# Altium footprint library USB-AP-S-RA-SMT.PCBLIB: 1 footprints
Each footprint in its own frame and in the unit in brackets; x right, y up, seen from the top. Pads: shape width x height; smd on the part's side, far side on the other; paste and mask are expansions set on the pad; w line width, h text height; cw(c..) or ccw(c..) is an arc to the next point about the centre after c.
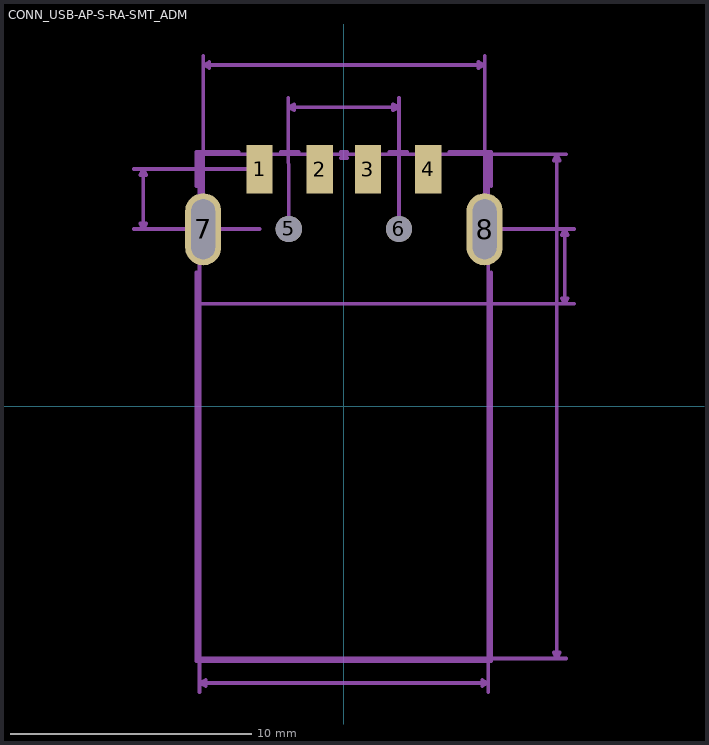
[diagram p0: the footprint, top view; thin cyan lines are the x and y axes]

## CONN_USB-AP-S-RA-SMT_ADM [mil]
pads (10):
  rect 43x79 smd: 1(-137.8,387.5) 2(-39.37,387.5) 3(39.37,387.5) 4(137.8,387.5)
  round 43 hole 43: 5(-90,290) 6(90,290)
  rrect100% 59x118 smd: 7(-230,289.5) 8(230,289.5)
  round 39 hole 39 slot 98 at 90 deg: S_1_H1(-230,289.5) S_2_H1(230,289.5)
Dimension:
  lines w6: -236,-412 236,-412 236,168 -236,168 -236,-412
  lines w39: -230,260 -230,319 ; 230,260 230,319
tDocu:
  lines w6: -236,-412 -236,412 236,412 236,-412 -236,-412
  text "*" at -260,362 h77.5
tPlace:
  lines w6: -241,219 -241,-416 241,-416 241,219 ; -241,360 -241,416 -172,416 ; -103,416 -74,416 ; -5,406 5,406 ; -5,416 5,416 ; 74,416 103,416 ; 172,416 241,416 241,360
  text "*" at -260,362 h77.5
Measures:
  lines w6: -343,290 -328,290 ; -343,388 -328,388 ; -236,-467 -236,-452 ; -236,-412 -236,-452 ; -230,290 -230,558 ; -230,573 -230,558 ; -138,290 -328,290 ; -138,388 -328,388 ; -91,504 -90,290 ; 90,290 90,489 ; 90,504 90,489 ; 230,-412 348,-412 ; 230,168 361,168 ; 230,573 230,558 ; 236,-467 236,-452 ; 236,-412 236,-452 ; 363,-412 348,-412 ; 363,412 348,412 ; 376,168 361,168 ; 376,290 361,290 ; -328,290 -323,299 -333,299 -328,290 ; -328,290 -328,388 ; -328,388 -333,378 -323,378 -328,388 ; -236,-452 -226,-457 -226,-447 -236,-452 ; -236,-452 236,-452 ; -230,558 -220,553 -220,563 -230,558 ; -230,558 230,558 ; -91,489 -81,484 -81,494 -91,489 ; -91,489 90,489 ; 90,489 80,494 80,484 90,489 ; 230,412 348,412 ; 230,412 230,558 ; 230,412 230,290 361,290 ; 230,558 220,563 220,553 230,558 ; 236,-452 226,-447 226,-457 236,-452 ; 348,-412 353,-402 343,-402 348,-412 ; 348,-412 348,412 ; 348,412 343,402 353,402 348,412 ; 361,168 366,177 356,177 361,168 ; 361,168 361,290 ; 361,290 356,280 366,280 361,290
  text "0.098in/2.489mm" at -666,326 h38.75
  text "0.181in/4.597mm" at -159,509 h38.75
  text "0.122in/3.099mm" at 381,216 h38.75
  text "0.823in/20.904mm" at 368,-12 h38.75
  text "0.472in/11.989mm" at -170,-497 h38.75
  text "0.46in/11.684mm" at -159,578 h38.75
  text "Alt 2 Padstyle: OX90Y60D30P" at -583,-1472 h77.5
  text "Alt 1 Padstyle: OX60Y90D30P" at -583,-1396 h77.5
  text "Independent Mtg Hole 4 Padstyle: EX96Y96D96P" at -962,-1322 h77.5
  text "Independent Mtg Hole 3 Padstyle: EX96Y96D96P" at -962,-1246 h77.5
  text "Independent Mtg Hole 2 Padstyle: EX96Y96D96P" at -962,-1172 h77.5
  text "Independent Mtg Hole 1 Padstyle: EX96Y96D96P" at -962,-1096 h77.5
  text "Second Mounting Padstyle: OX59Y118D0T" at -810,-1022 h77.5
  text "Mounting Padstyle: OX43Y43D43P" at -651,-946 h77.5
  text "Second Bottom Row Padstyle: EX55Y55D32P" at -855,-872 h77.5
  text "Bottom Row Padstyle: EX55Y55D32P" at -697,-796 h77.5
  text "2nd Middle Row Padstyle: EX55Y55D32P" at -787,-722 h77.5
  text "Middle Row Padstyle: RX43Y79D0T" at -674,-646 h77.5
  text "Top Row Padstyle:RX43Y79D0T" at -598,-572 h77.5
3D body "USB Connector Type A male, SMT.STEP": height 175.58, standoff -99.89, extent -244.63,-422 244.63,424.54